# Altium schematic symbol library discrete_capacitor.SchLib: 2 symbols
Pins are listed as number, name and electrical type; pins without a type are passive.

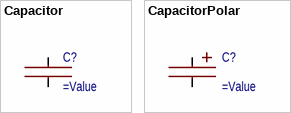
[diagram p0: symbols Capacitor to CapacitorPolar]

## Capacitor
designator C?
Неполяризованный конденсатор
pins: 1, 2

## CapacitorPolar
designator C?
Поляризованный конденсатор
pins: 1, 2